# Altium footprint library Diode.PcbLib: 53 footprints (part 4 of 4)
Each footprint in its own frame and in the unit in brackets; x right, y up, seen from the top. Pads: shape width x height; smd on the part's side, far side on the other; paste and mask are expansions set on the pad; w line width, h text height; cw(c..) or ccw(c..) is an arc to the next point about the centre after c.
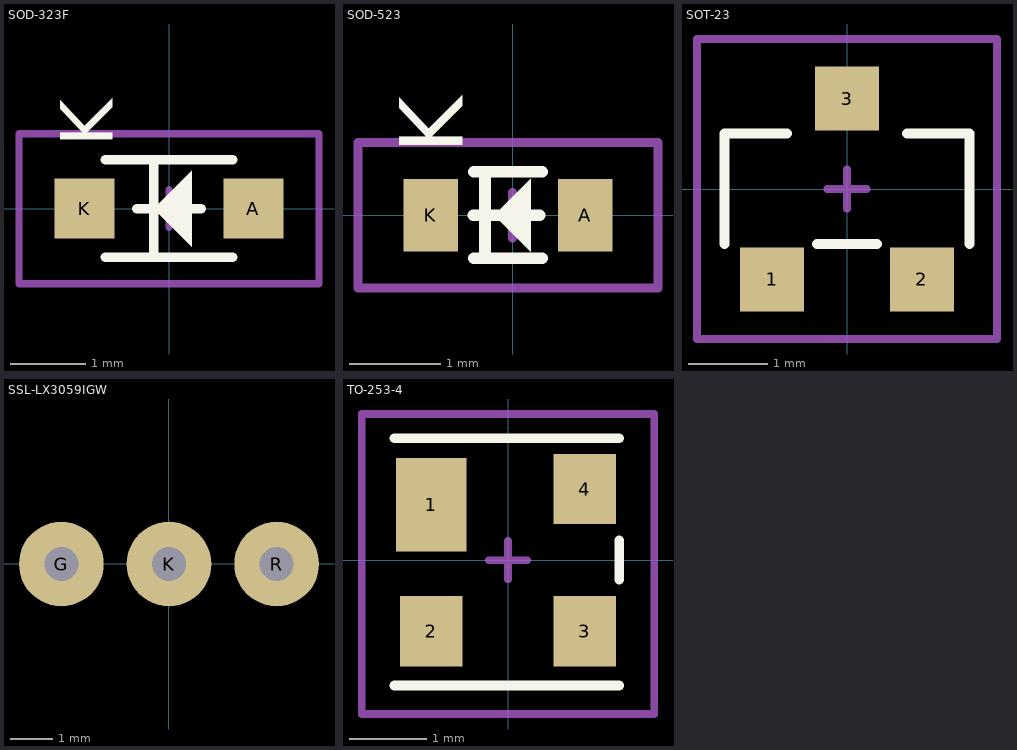
[diagram p3: the footprints below, top view; thin cyan lines are the x and y axes]

## SOD-323F [mm]
height 1
pads (2):
  rect 0.8x0.8 smd paste+0: A(1.125,0) K(-1.125,0)
Top Overlay:
  region: -0.203,0 0.305,0.508 0.305,-0.508
  lines w0.127: -0.85,-0.65 0.85,-0.65 ; -0.85,0.65 0.85,0.65 ; -0.432,0 0.432,0 ; -0.203,-0.65 -0.203,0.65
  text "K" at -0.75,0.825 h0.7
Mechanical 15:
  lines w0.1: -0.25,0 0.25,0 ; 0,-0.25 0,0.25 ; -2,-1 2,-1 2,1 -2,1 -2,-1
3D body "SOD-323F.STEP": height 0.79, standoff -0.08, extent -1.35,-0.66 1.35,0.69

## SOD-523 [mm]
height 1
pads (2):
  rect 0.6x0.8 smd paste+0: A(0.8,0) K(-0.9,0)
Top Overlay:
  region: -0.2,0 0.2,0.4 0.2,-0.4
  lines w0.127: -0.432,0 0.3,0 ; -0.425,-0.475 0.325,-0.475 ; -0.425,0.475 0.325,0.475 ; -0.303,-0.45 -0.303,0.45
  text "K" at -0.55,0.675 h0.7
Mechanical 15:
  lines w0.1: -0.25,0 0.25,0 ; 0,-0.25 0,0.25 ; -1.7,-0.8 -1.7,0.8 1.6,0.8 1.6,-0.8 -1.7,-0.8
3D body "SOD-523F.step": height 0.7, standoff 0, extent -0.85,-0.397 0.75,0.4

## SOT-23 [mil]
pads (3):
  rect 32x32 smd: 1(-37.4,-45.1) 2(37.4,-45.1) 3(0,45.1)
Top Overlay:
  lines w5: -61,-27.5 -61,27.6 -30,27.6 ; -15,-27.5 15,-27.5 ; 30,27.6 61,27.6 61,-27.5
Mechanical 15:
  lines w3.94: -9.84,0 9.84,0 ; 0,-9.84 0,9.84 ; -74.8,-74.8 -74.8,74.8 74.8,74.8 74.8,-74.8 -74.8,-74.8
3D body "SW3DPS-SOT-23-DEFAULT.step": height 42.91, standoff -0.39, extent -59.06,-49.21 59.06,49.21

## SSL-LX3059IGW [mm]
pads (3):
  round 2 hole 0.8: G(-2.54,0) K(0,0) R(2.54,0)
3D body "LED BRANCO DA PORRA.STEP": height 14, standoff -2.6, extent -2.794,-1.984 2.794,2

## TO-253-4 [mil]
pads (4):
  rect 36x48 smd: 1(-39.35,28.4)
  rect 32x36 smd: 2(-39.35,-36.4) 3(39.35,-36.4) 4(39.35,36.4)
Top Overlay:
  lines w5: -58.25,-64.1 56.95,-64.1 ; -58.25,62.4 56.95,62.4 ; 56.95,-10 56.95,10
Mechanical 15:
  lines w3.94: -9.84,0 9.84,0 ; 0,-9.84 0,9.84 ; -74.8,-78.74 74.8,-78.74 74.8,74.8 -74.8,74.8 -74.8,-78.74
3D body "46ROL5721000 - SOT143.stp": height 39.37, standoff 0, extent -47.63,-59.06 47.64,55.9